# EAGLE library part 662014231722 (library Wuerth_Elektronik_eiCan_08_Micro_Power_Connectors)
WR-MPC3 3.00mm Male Dual Row SMT Angled Header SMT Fitting Nail Clip, 14 Pins
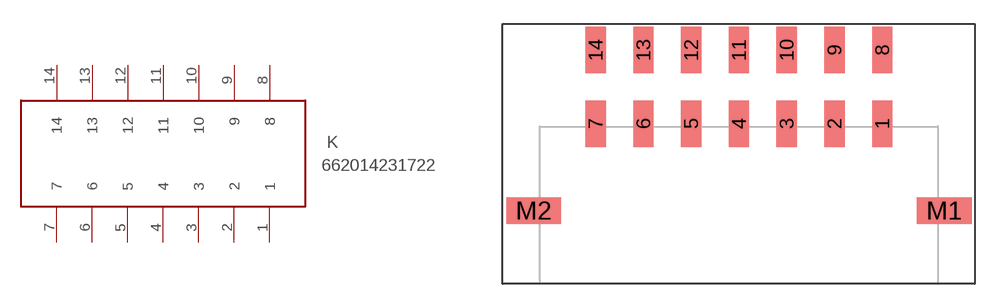
[diagram p64: symbol with the pads of 662014231722; footprint 662014231722]

Designator prefix K

## 662014231722  [662014231722]
1  1
2  2
3  3
4  4
5  5
6  6
7  7
8  8
9  9
10  10
11  11
12  12
13  13
14  14

## Footprint 662014231722 (pad centres in mm)
WR-MPC3 3.00mm Male Dual Row SMT Angled Header SMT Fitting Nail Clip, 14 Pins
smd 1.27 x 2.92: 1 0,-2.31; 2 -3,-2.31; 3 -6,-2.31; 4 -9,-2.31; 5 -12,-2.31; 6 -15,-2.31; 7 -18,-2.31; 8 0,2.31; 9 -3,2.31; 10 -6,2.31; 11 -9,2.31; 12 -12,2.31; 13 -15,2.31; 14 -18,2.31
smd 3.43 x 1.65: M1 3.895,-7.79; M2 -21.895,-7.79